# Altium integrated library Silicon Labs Wireless.IntLib: 71 symbols (part 5 of 7)
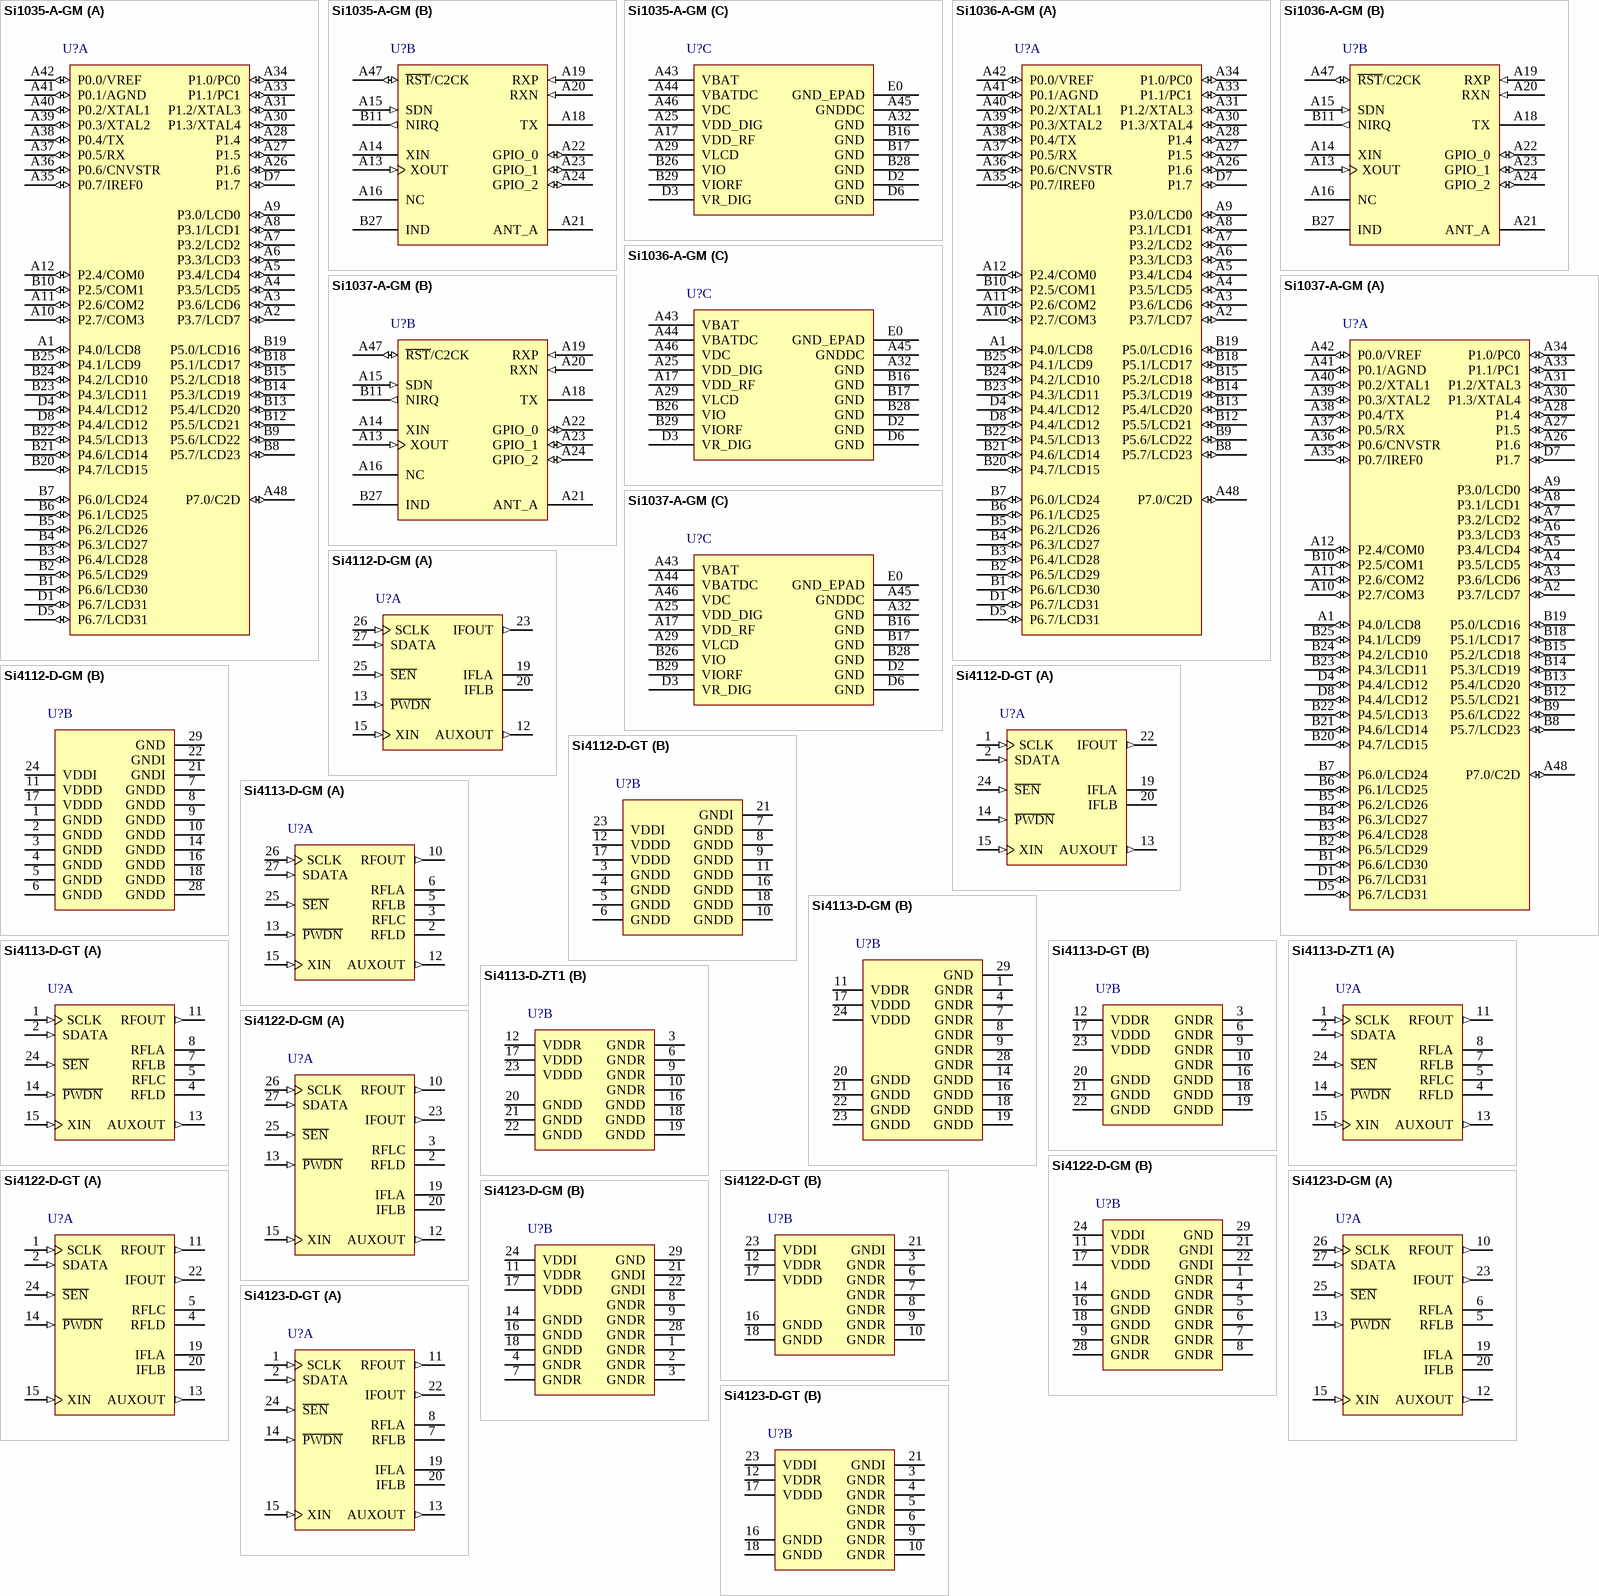
[diagram p10: symbols Si1035-A-GM to Si4123-D-GT]

## Si1037-A-GM
designator U?
Ultra Low Power, LCD MCU Family, 16 kB Flash, 4 Timers (16-Bit), -40 to 85 degC, 85-pin LGA, Tray; Manufacturer: Silicon Labs; PartNumber: Si1037-A-GM; Comparators: 2; Dig I/O Pins: 53; Flash: 16 kB; Frequency Range: 240 to 960 MHz; FSK/GFSK Data Rate: 256 kbps; Internal Osc. Accuracy: +/-2%; OOK Data Rate: 40 kbps; Output Power: -4 to 13 dBm; PCA Channels: 6; RX Current: 18.5 mA; Temp Sensor: TRUE; Timers (16-bit): 4; Sub-Family: Wireless MCUs; DatasheetVersion: Rev. 0.3; PackageReference: LGA-85; PackageDescription: 85-Pin Land Grid Array, Body 6 x 8 mm, Pitch 0.5 mm; Supplier 1: Digi-Key; Supplier Part Number 1: 336-2188-ND; Supplier 2: Mouser; Supplier Part Number 2: 634-SI1037-A-GM; Packing: Tray; Mounting Technology: Surface Mount; Code_IPC: J-STD-020; ComponentLink1Description: Manufacturer URL; ComponentLink1URL: http://www.silabs.com/; ComponentLink2Description: Datasheet; ComponentLink2URL: http://www.silabs.com/Support Documents/TechnicalDocs/Si102x-3x.pdf; ComponentLink3Description: Package Specification; ComponentLink3URL: http://www.silabs.com/Support%20Documents/TechnicalDocs/Si102x-3x.pdf
footprint SLAB-LGA-85_V (LGA, 85-Leads, Body 8x6mm, Thermal Pad 2.4x5.6mm)
part A pins: A1 P4.0/LCD8 (io), A2 P3.7/LCD7 (io), A3 P3.6/LCD6 (io), A4 P3.5/LCD5 (io), A5 P3.4/LCD4 (io), A6 P3.3/LCD3 (io), A7 P3.2/LCD2 (io), A8 P3.1/LCD1 (io), A9 P3.0/LCD0 (io), A10 P2.7/COM3 (io), A11 P2.6/COM2 (io), A12 P2.4/COM0 (io), A26 P1.6 (io) "Port 1.6. See Port I/O Section for a complete description.", A27 P1.5 (io) "Port 1.5. See Port I/O Section for a complete description.", A28 P1.4 (io) "Port 1.4. See Port I/O Section for a complete description.", A30 P1.3/XTAL4 (io), A31 P1.2/XTAL3 (io), A33 P1.1/PC1 (io), A34 P1.0/PC0 (io), A35 P0.7/IREF0 (io), A36 P0.6/CNVSTR (io), A37 P0.5/RX (io), A38 P0.4/TX (io), A39 P0.3/XTAL2 (io), A40 P0.2/XTAL1 (io), A41 P0.1/AGND (io), A42 P0.0/VREF (io), A48 P7.0/C2D (io), B1 P6.6/LCD30 (io), B2 P6.5/LCD29 (io), B3 P6.4/LCD28 (io), B4 P6.3/LCD27 (io), B5 P6.2/LCD26 (io), B6 P6.1/LCD25 (io), B7 P6.0/LCD24 (io), B8 P5.7/LCD23 (io), B9 P5.6/LCD22 (io), B10 P2.5/COM1 (io), B12 P5.5/LCD21 (io), B13 P5.4/LCD20 (io), B14 P5.3/LCD19 (io), B15 P5.2/LCD18 (io), B18 P5.1/LCD17 (io), B19 P5.0/LCD16 (io), B20 P4.7/LCD15 (io), B21 P4.6/LCD14 (io), B22 P4.5/LCD13 (io), B23 P4.3/LCD11 (io), B24 P4.2/LCD10 (io), B25 P4.1/LCD9 (io), D1 P6.7/LCD31 (io), D4 P4.4/LCD12 (io), D5 P6.7/LCD31 (io), D7 P1.7 (io) "Port 1.7. See Port I/O Section for a complete description.", D8 P4.4/LCD12 (io)
part B pins: A13 XOUT (in) "Crystal Oscillator Output/External Reference Input. Connect to an external 30 MHz crystal or to an external source. If using an external source with no crystal, then DC coupling with a nominal 0.8 VDC level is recommended (See Datasheet)", A14 XIN "Crystal Oscillator Input. Connect to an external 30 MHz crystal or leave floating when driving with an external source on XOUT.", A15 SDN (in) "Shutdown input pin. SDN should be low in all modes except Shutdown mode. When SDN is high, the radio will be completely shut down, and the contents of the registers will be lost.", A16 NC "No Connect. Not connected internally to any circuitry.", A18 TX (oc) "Transmit output pin. The PA output is an open-drain connection so the L-C match must supply VDD (+3.3 VDC nominal) to this pin.", A19 RXP (in) "Differential RF input pins of the LNA. See application schematic for example matching network.", A20 RXN (in) "Differential RF input pins of the LNA. See application schematic for example matching network.", A21 ANT_A "Extra antenna or TR switch control to be used if more GPIO are required. Pin is a hardwired version of GPIO setting 11000, Antenna 2 and can be manually controlled by the antdiv[2:0] bits in register 08h. See register (See Datasheet)", A22 GPIO_0 (io) "General Purpose Digital I/O that may be configured through the registers to perform various functions including: Microcontroller Clock Output, FIFO status, POR, Wake-Up timer, Low Battery Detect, T/R switch, AntDiversity (See Datasheet)", A23 GPIO_1 (io) "General Purpose Digital I/O that may be configured through the registers to perform various functions including: Microcontroller Clock Output, FIFO status, POR, Wake-Up timer, Low Battery Detect, T/R switch, AntDiversity (See Datasheet)", A24 GPIO_2 (io) "General Purpose Digital I/O that may be configured through the registers to perform various functions including: Microcontroller Clock Output, FIFO status, POR, Wake-Up timer, Low Battery Detect, T/R switch, AntDiversity (See Datasheet)", A47 ~{RST}/C2CK (io), B11 NIRQ (out) "General Microcontroller Interrupt Status output. When the EZRadioPRO transceiver exhibits anyone of the Interrupt Events, the nIRQ pin will be set low. Please see the Control Logic registers section for more information on (See Datasheet)", B27 IND "DC-DC Inductor Pin. This pin requires a 560 nH inductor to VDC if the DC-DC converter is used."
part C pins: A17 VDD_RF (power) "+1.8 to +3.6 V supply voltage input to all analog +1.7 V regulators. The recommended VDD supply voltage is +3.3 V", A25 VDD_DIG (power) "+1.8 to +3.6 V supply voltage input to the Digital +1.7 V regulator. The recommended VDD supply voltage is +3.3 V.", A29 VLCD (power) "LCD Power Supply. This pin requires a 10 uF capacitor to stabilize the charge pump.", A32 GND (power) "Required Ground.", A43 VBAT (power) "Battery Supply Voltage. Must be 1.8 to 3.8 V.", A44 VBATDC (power) "DC0 Input Voltage. Must be 1.8 to 3.8 V.", A45 GNDDC (power) "DC-DC converter return current path. This pin is typically tied to the ground plane.", A46 VDC (power) "Alternate Power Supply Voltage. Must be 1.8 to 3.6 V. This supply voltage must always be <= VBAT. Software may select this supply voltage to power the digital logic. Positive output of the DC-DC converter. A 1 uF to 10 uF (See Datasheet)", B16 GND (power) "Required Ground.", B17 GND (power) "Required Ground.", B26 VIO (power) "I/O Power Supply for P0.0-P1.4 and P2.4-P7.0 pins. This supply voltage must always be <= VBAT.", B28 GND (power) "Required Ground.", B29 VIORF (power) "I/O Power Supply for P1.5-P2.3 pins. This supply voltage must always be <= VBAT", D2 GND (power) "Required Ground.", D3 VR_DIG (power) "Regulated Output Voltage of the Digital 1.7 V regulator. A 1 uF decoupling capacitor is required.", D6 GND (power) "Required Ground.", E0 GND_EPAD (power)

## Si4112-D-GM
designator U?
Dual-Band RF Synthesizer with Integrated VCOs for Wireless Communications, -40 to 85 degC, 28-pin QFN, Tube; Manufacturer: Silicon Labs; PartNumber: Si4112-D-GM; Sub-Family: RF Synthesizers; DatasheetVersion: Rev. 1.61; PackageReference: QFN-28; PackageDescription: 28-Pin Quad-Flat No-Leads Package, Body 5 x 5 mm, Pitch 0.5 mm; Supplier 1: Digi-Key; Supplier Part Number 1: 336-1170-ND; Supplier 2: Mouser; Supplier Part Number 2: 634-SI4112-D-GM; Packing: Tube; Mounting Technology: Surface Mount; Code_JEDEC: MO-220; Code_IPC: J-STD-020; ComponentLink1Description: Manufacturer URL; ComponentLink1URL: http://www.silabs.com/; ComponentLink2Description: Datasheet; ComponentLink2URL: http://www.silabs.com/Support%20Documents/TechnicalDocs/si4133.pdf; ComponentLink3Description: Package Specification; ComponentLink3URL: http://www.silabs.com/Support%20Documents/TechnicalDocs/si4133.pdf
footprint SLAB-QFN-28-2700x2700TP_N (QFN, 28-Leads, Body 5x5mm, Pitch 0.5mm, Thermal Pad 2.7x2.7mm, IPC Medium Density)
footprint SLAB-QFN-28-2700x2700TP_L (QFN, 28-Leads, Body 5x5mm, Pitch 0.5mm, Thermal Pad 2.7x2.7mm, IPC High Density)
footprint SLAB-QFN-28-2700x2700TP_M (QFN, 28-Leads, Body 5x5mm, Pitch 0.5mm, Thermal Pad 2.7x2.7mm, IPC Low Density)
part A pins: 12 AUXOUT (out) "Auxiliary output", 13 ~{PWDN} (in) "Powerdown input pin", 15 XIN (in) "Reference frequency amplifier input", 19 IFLA "Pins for inductor connection to IF VCO", 20 IFLB "Pins for inductor connection to IF VCO", 23 IFOUT (out) "Intermediate frequency (IF) output of the IF VCO", 25 ~{SEN} (in) "Enable serial port input", 26 SCLK (in) "Serial clock input", 27 SDATA (in) "Serial data input"
part B pins: 1 GNDD (power) "Common ground for digital circuitry", 2 GNDD (power) "Common ground for digital circuitry", 3 GNDD (power) "Common ground for digital circuitry", 4 GNDD (power) "Common ground for digital circuitry", 5 GNDD (power) "Common ground for digital circuitry", 6 GNDD (power) "Common ground for digital circuitry", 7 GNDD (power) "Common ground for digital circuitry", 8 GNDD (power) "Common ground for digital circuitry", 9 GNDD (power) "Common ground for digital circuitry", 10 GNDD (power) "Common ground for digital circuitry", 11 VDDD (power) "Supply voltage for digital circuitry", 14 GNDD (power) "Common ground for digital circuitry", 16 GNDD (power) "Common ground for digital circuitry", 17 VDDD (power) "Supply voltage for digital circuitry", 18 GNDD (power) "Common ground for digital circuitry", 21 GNDI (power) "Common ground for IF analog circuitry", 22 GNDI (power) "Common ground for IF analog circuitry", 24 VDDI (power) "Supply voltage for IF analog circuitry", 28 GNDD (power) "Common ground for digital circuitry", 29 GND (power)

## Si4112-D-GT
designator U?
Dual-Band RF Synthesizer with Integrated VCOs for Wireless Communications, -40 to 85 degC, 24-pin SOP, Tube; Manufacturer: Silicon Labs; PartNumber: Si4112-D-GT; Sub-Family: RF Synthesizers; DatasheetVersion: Rev. 1.61; PackageReference: TSSOP-24; PackageDescription: 24-Pin Thin Shrink Small-Outline Package, Body 7.8 x 4.4 mm, Pitch 0.65 mm; Supplier 1: Digi-Key; Supplier Part Number 1: 336-1171-ND; Supplier 2: Mouser; Supplier Part Number 2: 634-SI4112-D-GT; Packing: Tube; Mounting Technology: Surface Mount; Code_JEDEC: MO-153; Code_IPC: J-STD-020; ComponentLink1Description: Manufacturer URL; ComponentLink1URL: http://www.silabs.com/; ComponentLink2Description: Datasheet; ComponentLink2URL: http://www.silabs.com/Support%20Documents/TechnicalDocs/si4133.pdf; ComponentLink3Description: Package Specification; ComponentLink3URL: http://www.silabs.com/Support%20Documents/TechnicalDocs/Si2457-34-15-04D.pdf
footprint SLAB-TSSOP-24_N (SOP, 24-Leads, Body 7.9x4.5mm, Pitch 0.65mm, IPC Medium Density)
footprint SLAB-TSSOP-24_L (SOP, 24-Leads, Body 7.9x4.5mm, Pitch 0.65mm, IPC High Density)
footprint SLAB-TSSOP-24_M (SOP, 24-Leads, Body 7.9x4.5mm, Pitch 0.65mm, IPC Low Density)
part A pins: 1 SCLK (in) "Serial clock input", 2 SDATA (in) "Serial data input", 13 AUXOUT (out) "Auxiliary output", 14 ~{PWDN} (in) "Powerdown input pin", 15 XIN (in) "Reference frequency amplifier input", 19 IFLA "Pins for inductor connection to IF VCO", 20 IFLB "Pins for inductor connection to IF VCO", 22 IFOUT (out) "Intermediate frequency (IF) output of the IF VCO", 24 ~{SEN} (in) "Enable serial port input"
part B pins: 3 GNDD (power) "Common ground for RF analog circuitry", 4 GNDD (power) "Common ground for RF analog circuitry", 5 GNDD (power) "Common ground for RF analog circuitry", 6 GNDD (power) "Common ground for RF analog circuitry", 7 GNDD (power) "Common ground for RF analog circuitry", 8 GNDD (power) "Common ground for RF analog circuitry", 9 GNDD (power) "Common ground for RF analog circuitry", 10 GNDD (power) "Common ground for RF analog circuitry", 11 GNDD (power) "Common ground for RF analog circuitry", 12 VDDD (power) "Supply voltage for the RF analog circuitry", 16 GNDD (power) "Common ground for digital circuitry", 17 VDDD (power) "Supply voltage for digital circuitry", 18 GNDD (power) "Common ground for digital circuitry", 21 GNDI (power) "Common ground for IF analog circuitry", 23 VDDI (power) "Supply voltage for IF analog circuitry"

## Si4113-D-GM
designator U?
Dual-Band RF Synthesizer with Integrated VCOs for Wireless Communications, -40 to 85 degC, 28-pin QFN, Tray; Manufacturer: Silicon Labs; PartNumber: Si4113-D-GM; Sub-Family: RF Synthesizers; DatasheetVersion: Rev. 1.61; PackageReference: QFN-28; PackageDescription: 28-Pin Quad-Flat No-Leads Package, Body 5 x 5 mm, Pitch 0.5 mm; Supplier 1: Digi-Key; Supplier Part Number 1: 336-1099-ND; Supplier 2: Mouser; Supplier Part Number 2: 634-SI4113-D-GM; Packing: Tray; Mounting Technology: Surface Mount; Code_JEDEC: MO-220; Code_IPC: J-STD-020; ComponentLink1Description: Manufacturer URL; ComponentLink1URL: http://www.silabs.com/; ComponentLink2Description: Datasheet; ComponentLink2URL: http://www.silabs.com/Support%20Documents/TechnicalDocs/si4133.pdf; ComponentLink3Description: Package Specification; ComponentLink3URL: http://www.silabs.com/Support%20Documents/TechnicalDocs/si4133.pdf
footprint SLAB-QFN-28-2700x2700TP_N (QFN, 28-Leads, Body 5x5mm, Pitch 0.5mm, Thermal Pad 2.7x2.7mm, IPC Medium Density)
footprint SLAB-QFN-28-2700x2700TP_L (QFN, 28-Leads, Body 5x5mm, Pitch 0.5mm, Thermal Pad 2.7x2.7mm, IPC High Density)
footprint SLAB-QFN-28-2700x2700TP_M (QFN, 28-Leads, Body 5x5mm, Pitch 0.5mm, Thermal Pad 2.7x2.7mm, IPC Low Density)
part A pins: 2 RFLD "Pins for inductor connection to RF2 VCO", 3 RFLC "Pins for inductor connection to RF2 VCO", 5 RFLB "Pins for inductor connection to RF1 VCO", 6 RFLA "Pins for inductor connection to RF1 VCO", 10 RFOUT (out) "Radio frequency (RF) output of the selected RF VCO", 12 AUXOUT (out) "Auxiliary output", 13 ~{PWDN} (in) "Powerdown input pin", 15 XIN (in) "Reference frequency amplifier input", 25 ~{SEN} (in) "Enable serial port input", 26 SCLK (in) "Serial clock input", 27 SDATA (in) "Serial data input"
part B pins: 1 GNDR (power) "Common ground for RF analog circuitry", 4 GNDR (power) "Common ground for RF analog circuitry", 7 GNDR (power) "Common ground for RF analog circuitry", 8 GNDR (power) "Common ground for RF analog circuitry", 9 GNDR (power) "Common ground for RF analog circuitry", 11 VDDR (power) "Supply voltage for the RF analog circuitry", 14 GNDD (power) "Common ground for digital circuitry", 16 GNDD (power) "Common ground for digital circuitry", 17 VDDD (power) "Supply voltage for digital circuitry", 18 GNDD (power) "Common ground for digital circuitry", 19 GNDD (power) "Common ground for digital circuitry", 20 GNDD (power) "Common ground for digital circuitry", 21 GNDD (power) "Common ground for digital circuitry", 22 GNDD (power) "Common ground for digital circuitry", 23 GNDD (power) "Common ground for digital circuitry", 24 VDDD (power) "Supply voltage for digital circuitry", 28 GNDR (power) "Common ground for RF analog circuitry", 29 GND (power)

## Si4113-D-GT
designator U?
Dual-Band RF Synthesizer with Integrated VCOs for Wireless Communications, -40 to 85 degC, 24-pin SOP, Tube; Manufacturer: Silicon Labs; PartNumber: Si4113-D-GT; Sub-Family: RF Synthesizers; DatasheetVersion: Rev. 1.61; PackageReference: TSSOP-24; PackageDescription: 24-Pin Thin Shrink Small-Outline Package, Body 7.8 x 4.4 mm, Pitch 0.65 mm; Supplier 1: Digi-Key; Supplier Part Number 1: 336-1172-ND; Supplier 2: Mouser; Supplier Part Number 2: 634-SI4113-D-GT; Packing: Tube; Mounting Technology: Surface Mount; Code_JEDEC: MO-153; Code_IPC: J-STD-020; ComponentLink1Description: Manufacturer URL; ComponentLink1URL: http://www.silabs.com/; ComponentLink2Description: Datasheet; ComponentLink2URL: http://www.silabs.com/Support%20Documents/TechnicalDocs/si4133.pdf; ComponentLink3Description: Package Specification; ComponentLink3URL: http://www.silabs.com/Support%20Documents/TechnicalDocs/Si2457-34-15-04D.pdf
footprint SLAB-TSSOP-24_N (SOP, 24-Leads, Body 7.9x4.5mm, Pitch 0.65mm, IPC Medium Density)
footprint SLAB-TSSOP-24_L (SOP, 24-Leads, Body 7.9x4.5mm, Pitch 0.65mm, IPC High Density)
footprint SLAB-TSSOP-24_M (SOP, 24-Leads, Body 7.9x4.5mm, Pitch 0.65mm, IPC Low Density)
part A pins: 1 SCLK (in) "Serial clock input", 2 SDATA (in) "Serial data input", 4 RFLD "Pins for inductor connection to RF2 VCO", 5 RFLC "Pins for inductor connection to RF2 VCO", 7 RFLB "Pins for inductor connection to RF1 VCO", 8 RFLA "Pins for inductor connection to RF1 VCO", 11 RFOUT (out) "Radio frequency (RF) output of the selected RF VCO", 13 AUXOUT (out) "Auxiliary output", 14 ~{PWDN} (in) "Powerdown input pin", 15 XIN (in) "Reference frequency amplifier input", 24 ~{SEN} (in) "Enable serial port input"
part B pins: 3 GNDR (power) "Common ground for RF analog circuitry", 6 GNDR (power) "Common ground for RF analog circuitry", 9 GNDR (power) "Common ground for RF analog circuitry", 10 GNDR (power) "Common ground for RF analog circuitry", 12 VDDR (power) "Supply voltage for the RF analog circuitry", 16 GNDD (power) "Common ground for digital circuitry", 17 VDDD (power) "Supply voltage for digital circuitry", 18 GNDD (power) "Common ground for digital circuitry", 19 GNDD (power) "Common ground for digital circuitry", 20 GNDD (power) "Common ground for digital circuitry", 21 GNDD (power) "Common ground for IF analog circuitry", 22 GNDD (power) "Common ground for digital circuitry", 23 VDDD (power) "Supply voltage for IF analog circuitry"

## Si4113-D-ZT1
designator U?
Dual-Band RF Synthesizer with Integrated VCOs for Wireless Communications, -40 to 85 degC, 24-pin SOP, Tube; Manufacturer: Silicon Labs; PartNumber: Si4113-D-ZT1; Sub-Family: RF Synthesizers; DatasheetVersion: Rev. 1.61; PackageReference: TSSOP-24; PackageDescription: 24-Pin Thin Shrink Small-Outline Package, Body 7.8 x 4.4 mm, Pitch 0.65 mm; Supplier 1: Digi-Key; Supplier Part Number 1: SI4113-D-ZT1-ND; Supplier 2: Mouser; Supplier Part Number 2: 634-SI4113-D-ZT1; Packing: Tube; Mounting Technology: Surface Mount; Code_JEDEC: MO-153; Code_IPC: J-STD-020; ComponentLink1Description: Manufacturer URL; ComponentLink1URL: http://www.silabs.com/; ComponentLink2Description: Datasheet; ComponentLink2URL: http://www.silabs.com/Support%20Documents/TechnicalDocs/si4133.pdf; ComponentLink3Description: Package Specification; ComponentLink3URL: http://www.silabs.com/Support%20Documents/TechnicalDocs/Si2457-34-15-04D.pdf
footprint SLAB-TSSOP-24_N (SOP, 24-Leads, Body 7.9x4.5mm, Pitch 0.65mm, IPC Medium Density)
footprint SLAB-TSSOP-24_L (SOP, 24-Leads, Body 7.9x4.5mm, Pitch 0.65mm, IPC High Density)
footprint SLAB-TSSOP-24_M (SOP, 24-Leads, Body 7.9x4.5mm, Pitch 0.65mm, IPC Low Density)
part A pins: 1 SCLK (in) "Serial clock input", 2 SDATA (in) "Serial data input", 4 RFLD "Pins for inductor connection to RF2 VCO", 5 RFLC "Pins for inductor connection to RF2 VCO", 7 RFLB "Pins for inductor connection to RF1 VCO", 8 RFLA "Pins for inductor connection to RF1 VCO", 11 RFOUT (out) "Radio frequency (RF) output of the selected RF VCO", 13 AUXOUT (out) "Auxiliary output", 14 ~{PWDN} (in) "Powerdown input pin", 15 XIN (in) "Reference frequency amplifier input", 24 ~{SEN} (in) "Enable serial port input"
part B pins: 3 GNDR (power) "Common ground for RF analog circuitry", 6 GNDR (power) "Common ground for RF analog circuitry", 9 GNDR (power) "Common ground for RF analog circuitry", 10 GNDR (power) "Common ground for RF analog circuitry", 12 VDDR (power) "Supply voltage for the RF analog circuitry", 16 GNDD (power) "Common ground for digital circuitry", 17 VDDD (power) "Supply voltage for digital circuitry", 18 GNDD (power) "Common ground for digital circuitry", 19 GNDD (power) "Common ground for digital circuitry", 20 GNDD (power) "Common ground for digital circuitry", 21 GNDD (power) "Common ground for IF analog circuitry", 22 GNDD (power) "Common ground for digital circuitry", 23 VDDD (power) "Supply voltage for IF analog circuitry"

## Si4122-D-GM
designator U?
Dual-Band RF Synthesizer with Integrated VCOs for Wireless Communications, -40 to 85 degC, 28-pin QFN, Tray; Manufacturer: Silicon Labs; PartNumber: Si4122-D-GM; Sub-Family: RF Synthesizers; DatasheetVersion: Rev. 1.61; PackageReference: QFN-28; PackageDescription: 28-Pin Quad-Flat No-Leads Package, Body 5 x 5 mm, Pitch 0.5 mm; Supplier 1: Digi-Key; Supplier Part Number 1: 336-1103-ND; Supplier 2: Mouser; Supplier Part Number 2: 634-SI4122-D-GM; Packing: Tray; Mounting Technology: Surface Mount; Code_JEDEC: MO-220; Code_IPC: J-STD-020; ComponentLink1Description: Manufacturer URL; ComponentLink1URL: http://www.silabs.com/; ComponentLink2Description: Datasheet; ComponentLink2URL: http://www.silabs.com/Support%20Documents/TechnicalDocs/si4133.pdf; ComponentLink3Description: Package Specification; ComponentLink3URL: http://www.silabs.com/Support%20Documents/TechnicalDocs/si4133.pdf
footprint SLAB-QFN-28-2700x2700TP_N (QFN, 28-Leads, Body 5x5mm, Pitch 0.5mm, Thermal Pad 2.7x2.7mm, IPC Medium Density)
footprint SLAB-QFN-28-2700x2700TP_L (QFN, 28-Leads, Body 5x5mm, Pitch 0.5mm, Thermal Pad 2.7x2.7mm, IPC High Density)
footprint SLAB-QFN-28-2700x2700TP_M (QFN, 28-Leads, Body 5x5mm, Pitch 0.5mm, Thermal Pad 2.7x2.7mm, IPC Low Density)
part A pins: 2 RFLD "Pins for inductor connection to RF2 VCO", 3 RFLC "Pins for inductor connection to RF2 VCO", 10 RFOUT (out) "Radio frequency (RF) output of the selected RF VCO", 12 AUXOUT (out) "Auxiliary output", 13 ~{PWDN} (in) "Powerdown input pin", 15 XIN (in) "Reference frequency amplifier input", 19 IFLA "Pins for inductor connection to IF VCO", 20 IFLB "Pins for inductor connection to IF VCO", 23 IFOUT (out) "Intermediate frequency (IF) output of the IF VCO", 25 ~{SEN} (in) "Enable serial port input", 26 SCLK (in) "Serial clock input", 27 SDATA (in) "Serial data input"
part B pins: 1 GNDR (power) "Common ground for RF analog circuitry", 4 GNDR (power) "Common ground for RF analog circuitry", 5 GNDR (power) "Common ground for RF analog circuitry", 6 GNDR (power) "Common ground for RF analog circuitry", 7 GNDR (power) "Common ground for RF analog circuitry", 8 GNDR (power) "Common ground for RF analog circuitry", 9 GNDR (power) "Common ground for RF analog circuitry", 11 VDDR (power) "Supply voltage for the RF analog circuitry", 14 GNDD (power) "Common ground for digital circuitry", 16 GNDD (power) "Common ground for digital circuitry", 17 VDDD (power) "Supply voltage for digital circuitry", 18 GNDD (power) "Common ground for digital circuitry", 21 GNDI (power) "Common ground for IF analog circuitry", 22 GNDI (power) "Common ground for IF analog circuitry", 24 VDDI (power) "Supply voltage for IF analog circuitry", 28 GNDR (power) "Common ground for RF analog circuitry", 29 GND (power)

## Si4122-D-GT
designator U?
Dual-Band RF Synthesizer with Integrated VCOs for Wireless Communications, -40 to 85 degC, 24-pin SOP, Tube; Manufacturer: Silicon Labs; PartNumber: Si4122-D-GT; Sub-Family: RF Synthesizers; DatasheetVersion: Rev. 1.61; PackageReference: TSSOP-24; PackageDescription: 24-Pin Thin Shrink Small-Outline Package, Body 7.8 x 4.4 mm, Pitch 0.65 mm; Supplier 1: Digi-Key; Supplier Part Number 1: 336-1173-ND; Supplier 2: Mouser; Supplier Part Number 2: 634-SI4122-D-GT; Packing: Tube; Mounting Technology: Surface Mount; Code_JEDEC: MO-153; Code_IPC: J-STD-020; ComponentLink1Description: Manufacturer URL; ComponentLink1URL: http://www.silabs.com/; ComponentLink2Description: Datasheet; ComponentLink2URL: http://www.silabs.com/Support%20Documents/TechnicalDocs/si4133.pdf; ComponentLink3Description: Package Specification; ComponentLink3URL: http://www.silabs.com/Support%20Documents/TechnicalDocs/Si2457-34-15-04D.pdf
footprint SLAB-TSSOP-24_N (SOP, 24-Leads, Body 7.9x4.5mm, Pitch 0.65mm, IPC Medium Density)
footprint SLAB-TSSOP-24_L (SOP, 24-Leads, Body 7.9x4.5mm, Pitch 0.65mm, IPC High Density)
footprint SLAB-TSSOP-24_M (SOP, 24-Leads, Body 7.9x4.5mm, Pitch 0.65mm, IPC Low Density)
part A pins: 1 SCLK (in) "Serial clock input", 2 SDATA (in) "Serial data input", 4 RFLD "Pins for inductor connection to RF2 VCO", 5 RFLC "Pins for inductor connection to RF2 VCO", 11 RFOUT (out) "Radio frequency (RF) output of the selected RF VCO", 13 AUXOUT (out) "Auxiliary output", 14 ~{PWDN} (in) "Powerdown input pin", 15 XIN (in) "Reference frequency amplifier input", 19 IFLA "Pins for inductor connection to IF VCO", 20 IFLB "Pins for inductor connection to IF VCO", 22 IFOUT (out) "Intermediate frequency (IF) output of the IF VCO", 24 ~{SEN} (in) "Enable serial port input"
part B pins: 3 GNDR (power) "Common ground for RF analog circuitry", 6 GNDR (power) "Common ground for RF analog circuitry", 7 GNDR (power) "Common ground for RF analog circuitry", 8 GNDR (power) "Common ground for RF analog circuitry", 9 GNDR (power) "Common ground for RF analog circuitry", 10 GNDR (power) "Common ground for RF analog circuitry", 12 VDDR (power) "Supply voltage for the RF analog circuitry", 16 GNDD (power) "Common ground for digital circuitry", 17 VDDD (power) "Supply voltage for digital circuitry", 18 GNDD (power) "Common ground for digital circuitry", 21 GNDI (power) "Common ground for IF analog circuitry", 23 VDDI (power) "Supply voltage for IF analog circuitry"

## Si4123-D-GM
designator U?
Dual-Band RF Synthesizer with Integrated VCOs for Wireless Communications, -40 to 85 degC, 28-pin QFN, Tube; Manufacturer: Silicon Labs; PartNumber: Si4123-D-GM; Sub-Family: RF Synthesizers; DatasheetVersion: Rev. 1.61; PackageReference: QFN-28; PackageDescription: 28-Pin Quad-Flat No-Leads Package, Body 5 x 5 mm, Pitch 0.5 mm; Supplier 1: Digi-Key; Supplier Part Number 1: 336-1174-ND; Supplier 2: Mouser; Supplier Part Number 2: 634-SI4123-D-GM; Packing: Tube; Mounting Technology: Surface Mount; Code_JEDEC: MO-220; Code_IPC: J-STD-020; ComponentLink1Description: Manufacturer URL; ComponentLink1URL: http://www.silabs.com/; ComponentLink2Description: Datasheet; ComponentLink2URL: http://www.silabs.com/Support%20Documents/TechnicalDocs/si4133.pdf; ComponentLink3Description: Package Specification; ComponentLink3URL: http://www.silabs.com/Support%20Documents/TechnicalDocs/si4133.pdf
footprint SLAB-QFN-28-2700x2700TP_N (QFN, 28-Leads, Body 5x5mm, Pitch 0.5mm, Thermal Pad 2.7x2.7mm, IPC Medium Density)
footprint SLAB-QFN-28-2700x2700TP_L (QFN, 28-Leads, Body 5x5mm, Pitch 0.5mm, Thermal Pad 2.7x2.7mm, IPC High Density)
footprint SLAB-QFN-28-2700x2700TP_M (QFN, 28-Leads, Body 5x5mm, Pitch 0.5mm, Thermal Pad 2.7x2.7mm, IPC Low Density)
part A pins: 5 RFLB "Pins for inductor connection to RF1 VCO", 6 RFLA "Pins for inductor connection to RF1 VCO", 10 RFOUT (out) "Radio frequency (RF) output of the selected RF VCO", 12 AUXOUT (out) "Auxiliary output", 13 ~{PWDN} (in) "Powerdown input pin", 15 XIN (in) "Reference frequency amplifier input", 19 IFLA "Pins for inductor connection to IF VCO", 20 IFLB "Pins for inductor connection to IF VCO", 23 IFOUT (out) "Intermediate frequency (IF) output of the IF VCO", 25 ~{SEN} (in) "Enable serial port input", 26 SCLK (in) "Serial clock input", 27 SDATA (in) "Serial data input"
part B pins: 1 GNDR (power) "Common ground for RF analog circuitry", 2 GNDR (power) "Common ground for RF analog circuitry", 3 GNDR (power) "Common ground for RF analog circuitry", 4 GNDR (power) "Common ground for RF analog circuitry", 7 GNDR (power) "Common ground for RF analog circuitry", 8 GNDR (power) "Common ground for RF analog circuitry", 9 GNDR (power) "Common ground for RF analog circuitry", 11 VDDR (power) "Supply voltage for the RF analog circuitry", 14 GNDD (power) "Common ground for digital circuitry", 16 GNDD (power) "Common ground for digital circuitry", 17 VDDD (power) "Supply voltage for digital circuitry", 18 GNDD (power) "Common ground for digital circuitry", 21 GNDI (power) "Common ground for IF analog circuitry", 22 GNDI (power) "Common ground for IF analog circuitry", 24 VDDI (power) "Supply voltage for IF analog circuitry", 28 GNDR (power) "Common ground for RF analog circuitry", 29 GND (power)

## Si4123-D-GT
designator U?
Dual-Band RF Synthesizer with Integrated VCOs for Wireless Communications, -40 to 85 degC, 24-pin SOP, Tube; Manufacturer: Silicon Labs; PartNumber: Si4123-D-GT; Sub-Family: RF Synthesizers; DatasheetVersion: Rev. 1.61; PackageReference: TSSOP-24; PackageDescription: 24-Pin Thin Shrink Small-Outline Package, Body 7.8 x 4.4 mm, Pitch 0.65 mm; Supplier 1: Digi-Key; Supplier Part Number 1: 336-1175-ND; Supplier 2: Mouser; Supplier Part Number 2: 634-SI4123-D-GT; Packing: Tube; Mounting Technology: Surface Mount; Code_JEDEC: MO-153; Code_IPC: J-STD-020; ComponentLink1Description: Manufacturer URL; ComponentLink1URL: http://www.silabs.com/; ComponentLink2Description: Datasheet; ComponentLink2URL: http://www.silabs.com/Support%20Documents/TechnicalDocs/si4133.pdf; ComponentLink3Description: Package Specification; ComponentLink3URL: http://www.silabs.com/Support%20Documents/TechnicalDocs/Si2457-34-15-04D.pdf
footprint SLAB-TSSOP-24_N (SOP, 24-Leads, Body 7.9x4.5mm, Pitch 0.65mm, IPC Medium Density)
footprint SLAB-TSSOP-24_L (SOP, 24-Leads, Body 7.9x4.5mm, Pitch 0.65mm, IPC High Density)
footprint SLAB-TSSOP-24_M (SOP, 24-Leads, Body 7.9x4.5mm, Pitch 0.65mm, IPC Low Density)
part A pins: 1 SCLK (in) "Serial clock input", 2 SDATA (in) "Serial data input", 7 RFLB "Pins for inductor connection to RF1 VCO", 8 RFLA "Pins for inductor connection to RF1 VCO", 11 RFOUT (out) "Radio frequency (RF) output of the selected RF VCO", 13 AUXOUT (out) "Auxiliary output", 14 ~{PWDN} (in) "Powerdown input pin", 15 XIN (in) "Reference frequency amplifier input", 19 IFLA "Pins for inductor connection to IF VCO", 20 IFLB "Pins for inductor connection to IF VCO", 22 IFOUT (out) "Intermediate frequency (IF) output of the IF VCO", 24 ~{SEN} (in) "Enable serial port input"
part B pins: 3 GNDR (power) "Common ground for RF analog circuitry", 4 GNDR (power) "Common ground for RF analog circuitry", 5 GNDR (power) "Common ground for RF analog circuitry", 6 GNDR (power) "Common ground for RF analog circuitry", 9 GNDR (power) "Common ground for RF analog circuitry", 10 GNDR (power) "Common ground for RF analog circuitry", 12 VDDR (power) "Supply voltage for the RF analog circuitry", 16 GNDD (power) "Common ground for digital circuitry", 17 VDDD (power) "Supply voltage for digital circuitry", 18 GNDD (power) "Common ground for digital circuitry", 21 GNDI (power) "Common ground for IF analog circuitry", 23 VDDI (power) "Supply voltage for IF analog circuitry"

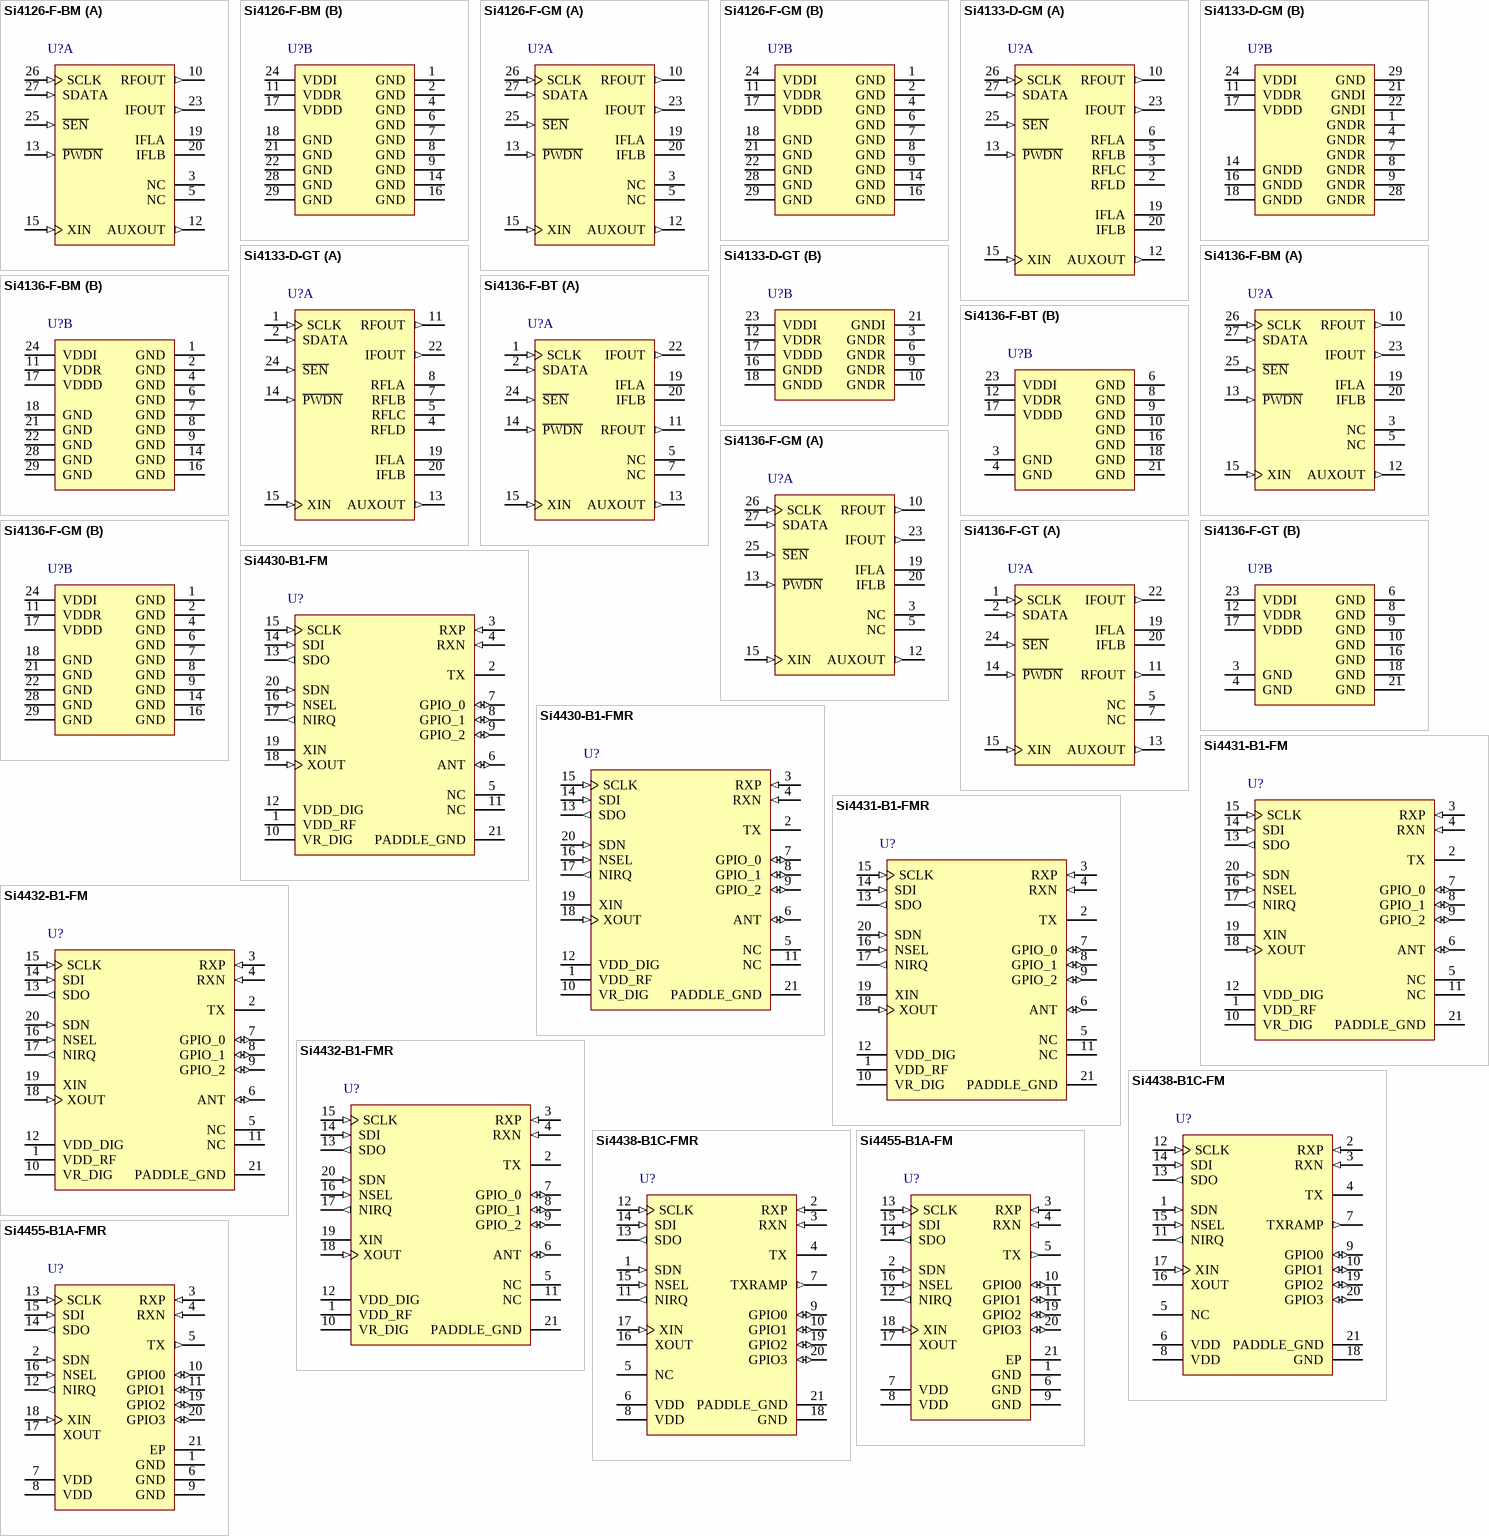
[diagram p5: symbols Si4126-F-BM to Si4455-B1A-FMR]

## Si4126-F-BM
designator U?
ISM RF Synthesizer with Integrated VCOs for Wireless Communications, -40 to 85 degC, 28-pin QFN, Tube; Manufacturer: Silicon Labs; PartNumber: Si4126-F-BM; Sub-Family: RF Synthesizers; DatasheetVersion: Rev. 1.41; PackageReference: QFN-28; PackageDescription: 28-Pin Quad-Flat No-Leads Package, Body 5 x 5 mm, Pitch 0.5 mm; Supplier 1: Digi-Key; Supplier Part Number 1: 336-1176-ND; Supplier 2: Mouser; Supplier Part Number 2: 634-SI4126-F-BM; Packing: Tube; Mounting Technology: Surface Mount; Code_JEDEC: MO-220; Code_IPC: J-STD-020; ComponentLink1Description: Manufacturer URL; ComponentLink1URL: http://www.silabs.com/; ComponentLink2Description: Datasheet; ComponentLink2URL: http://www.silabs.com/Support%20Documents/TechnicalDocs/si4136.pdf; ComponentLink3Description: Package Specification; ComponentLink3URL: http://www.silabs.com/Support%20Documents/TechnicalDocs/si4133.pdf
footprint SLAB-QFN-28-2700x2700TP_N (QFN, 28-Leads, Body 5x5mm, Pitch 0.5mm, Thermal Pad 2.7x2.7mm, IPC Medium Density)
footprint SLAB-QFN-28-2700x2700TP_L (QFN, 28-Leads, Body 5x5mm, Pitch 0.5mm, Thermal Pad 2.7x2.7mm, IPC High Density)
footprint SLAB-QFN-28-2700x2700TP_M (QFN, 28-Leads, Body 5x5mm, Pitch 0.5mm, Thermal Pad 2.7x2.7mm, IPC Low Density)
part A pins: 3 NC "No connect", 5 NC "No connect", 10 RFOUT (out) "Radio frequency (RF) output of the selected RF VCO", 12 AUXOUT (out) "Auxiliary output", 13 ~{PWDN} (in) "Powerdown input pin", 15 XIN (in) "Reference frequency amplifier input", 19 IFLA "Pins for inductor connection to IF VCO", 20 IFLB "Pins for inductor connection to IF VCO", 23 IFOUT (out) "Intermediate frequency (IF) output of the IF VCO", 25 ~{SEN} (in) "Enable serial port input", 26 SCLK (in) "Serial clock input", 27 SDATA (in) "Serial data input"
part B pins: 1 GND (power) "Common ground", 2 GND (power) "Common ground", 4 GND (power) "Common ground", 6 GND (power) "Common ground", 7 GND (power) "Common ground", 8 GND (power) "Common ground", 9 GND (power) "Common ground", 11 VDDR (power) "Supply voltage for the RF analog circuitry", 14 GND (power) "Common ground", 16 GND (power) "Common ground", 17 VDDD (power) "Supply voltage for digital circuitry", 18 GND (power) "Common ground", 21 GND (power) "Common ground", 22 GND (power) "Common ground", 24 VDDI (power) "Supply voltage for IF analog circuitry", 28 GND (power) "Common ground", 29 GND (power) "Common ground"

## Si4126-F-GM
designator U?
ISM RF Synthesizer with Integrated VCOs for Wireless Communications, -40 to 85 degC, 28-pin QFN, Tube; Manufacturer: Silicon Labs; PartNumber: Si4126-F-GM; Sub-Family: RF Synthesizers; DatasheetVersion: Rev. 1.41; PackageReference: QFN-28; PackageDescription: 28-Pin Quad-Flat No-Leads Package, Body 5 x 5 mm, Pitch 0.5 mm; Supplier 1: Digi-Key; Supplier Part Number 1: 336-1289-5-ND; Supplier 2: Mouser; Supplier Part Number 2: 634-SI4126-F-GM; Packing: Tube; Mounting Technology: Surface Mount; Code_JEDEC: MO-220; Code_IPC: J-STD-020; ComponentLink1Description: Manufacturer URL; ComponentLink1URL: http://www.silabs.com/; ComponentLink2Description: Datasheet; ComponentLink2URL: http://www.silabs.com/Support%20Documents/TechnicalDocs/si4136.pdf; ComponentLink3Description: Package Specification; ComponentLink3URL: http://www.silabs.com/Support%20Documents/TechnicalDocs/si4133.pdf
footprint SLAB-QFN-28-2700x2700TP_N (QFN, 28-Leads, Body 5x5mm, Pitch 0.5mm, Thermal Pad 2.7x2.7mm, IPC Medium Density)
footprint SLAB-QFN-28-2700x2700TP_L (QFN, 28-Leads, Body 5x5mm, Pitch 0.5mm, Thermal Pad 2.7x2.7mm, IPC High Density)
footprint SLAB-QFN-28-2700x2700TP_M (QFN, 28-Leads, Body 5x5mm, Pitch 0.5mm, Thermal Pad 2.7x2.7mm, IPC Low Density)
part A pins: 3 NC "No connect", 5 NC "No connect", 10 RFOUT (out) "Radio frequency (RF) output of the selected RF VCO", 12 AUXOUT (out) "Auxiliary output", 13 ~{PWDN} (in) "Powerdown input pin", 15 XIN (in) "Reference frequency amplifier input", 19 IFLA "Pins for inductor connection to IF VCO", 20 IFLB "Pins for inductor connection to IF VCO", 23 IFOUT (out) "Intermediate frequency (IF) output of the IF VCO", 25 ~{SEN} (in) "Enable serial port input", 26 SCLK (in) "Serial clock input", 27 SDATA (in) "Serial data input"
part B pins: 1 GND (power) "Common ground", 2 GND (power) "Common ground", 4 GND (power) "Common ground", 6 GND (power) "Common ground", 7 GND (power) "Common ground", 8 GND (power) "Common ground", 9 GND (power) "Common ground", 11 VDDR (power) "Supply voltage for the RF analog circuitry", 14 GND (power) "Common ground", 16 GND (power) "Common ground", 17 VDDD (power) "Supply voltage for digital circuitry", 18 GND (power) "Common ground", 21 GND (power) "Common ground", 22 GND (power) "Common ground", 24 VDDI (power) "Supply voltage for IF analog circuitry", 28 GND (power) "Common ground", 29 GND (power) "Common ground"

## Si4133-D-GM
designator U?
Dual-Band RF Synthesizer with Integrated VCOs for Wireless Communications, -40 to 85 degC, 28-pin QFN, Tray; Manufacturer: Silicon Labs; PartNumber: Si4133-D-GM; Sub-Family: RF Synthesizers; DatasheetVersion: Rev. 1.61; PackageReference: QFN-28; PackageDescription: 28-Pin Quad-Flat No-Leads Package, Body 5 x 5 mm, Pitch 0.5 mm; Supplier 1: Digi-Key; Supplier Part Number 1: 336-1113-ND; Supplier 2: Mouser; Supplier Part Number 2: 634-SI4133-D-GM; Packing: Tray; Mounting Technology: Surface Mount; Code_JEDEC: MO-220; Code_IPC: J-STD-020; ComponentLink1Description: Manufacturer URL; ComponentLink1URL: http://www.silabs.com/; ComponentLink2Description: Datasheet; ComponentLink2URL: http://www.silabs.com/Support%20Documents/TechnicalDocs/si4133.pdf; ComponentLink3Description: Package Specification; ComponentLink3URL: http://www.silabs.com/Support%20Documents/TechnicalDocs/si4133.pdf
footprint SLAB-QFN-28-2700x2700TP_N (QFN, 28-Leads, Body 5x5mm, Pitch 0.5mm, Thermal Pad 2.7x2.7mm, IPC Medium Density)
footprint SLAB-QFN-28-2700x2700TP_L (QFN, 28-Leads, Body 5x5mm, Pitch 0.5mm, Thermal Pad 2.7x2.7mm, IPC High Density)
footprint SLAB-QFN-28-2700x2700TP_M (QFN, 28-Leads, Body 5x5mm, Pitch 0.5mm, Thermal Pad 2.7x2.7mm, IPC Low Density)
part A pins: 2 RFLD "Pins for inductor connection to RF2 VCO", 3 RFLC "Pins for inductor connection to RF2 VCO", 5 RFLB "Pins for inductor connection to RF1 VCO", 6 RFLA "Pins for inductor connection to RF1 VCO", 10 RFOUT (out) "Radio frequency (RF) output of the selected RF VCO", 12 AUXOUT (out) "Auxiliary output", 13 ~{PWDN} (in) "Powerdown input pin", 15 XIN (in) "Reference frequency amplifier input", 19 IFLA "Pins for inductor connection to IF VCO", 20 IFLB "Pins for inductor connection to IF VCO", 23 IFOUT (out) "Intermediate frequency (IF) output of the IF VCO", 25 ~{SEN} (in) "Enable serial port input", 26 SCLK (in) "Serial clock input", 27 SDATA (in) "Serial data input"
part B pins: 1 GNDR (power) "Common ground for RF analog circuitry", 4 GNDR (power) "Common ground for RF analog circuitry", 7 GNDR (power) "Common ground for RF analog circuitry", 8 GNDR (power) "Common ground for RF analog circuitry", 9 GNDR (power) "Common ground for RF analog circuitry", 11 VDDR (power) "Supply voltage for the RF analog circuitry", 14 GNDD (power) "Common ground for digital circuitry", 16 GNDD (power) "Common ground for digital circuitry", 17 VDDD (power) "Supply voltage for digital circuitry", 18 GNDD (power) "Common ground for digital circuitry", 21 GNDI (power) "Common ground for IF analog circuitry", 22 GNDI (power) "Common ground for IF analog circuitry", 24 VDDI (power) "Supply voltage for IF analog circuitry", 28 GNDR (power) "Common ground for RF analog circuitry", 29 GND (power)

## Si4133-D-GT
designator U?
Dual-Band RF Synthesizer with Integrated VCOs for Wireless Communications, -40 to 85 degC, 24-pin SOP, Tube; Manufacturer: Silicon Labs; PartNumber: Si4133-D-GT; Sub-Family: RF Synthesizers; DatasheetVersion: Rev. 1.61; PackageReference: TSSOP-24; PackageDescription: 24-Pin Thin Shrink Small-Outline Package, Body 7.8 x 4.4 mm, Pitch 0.65 mm; Supplier 1: Digi-Key; Supplier Part Number 1: 336-1177-ND; Supplier 2: Mouser; Supplier Part Number 2: 634-SI4133-D-GT; Packing: Tube; Mounting Technology: Surface Mount; Code_JEDEC: MO-153; Code_IPC: J-STD-020; ComponentLink1Description: Manufacturer URL; ComponentLink1URL: http://www.silabs.com/; ComponentLink2Description: Datasheet; ComponentLink2URL: http://www.silabs.com/Support%20Documents/TechnicalDocs/si4133.pdf; ComponentLink3Description: Package Specification; ComponentLink3URL: http://www.silabs.com/Support%20Documents/TechnicalDocs/Si2457-34-15-04D.pdf
footprint SLAB-TSSOP-24_N (SOP, 24-Leads, Body 7.9x4.5mm, Pitch 0.65mm, IPC Medium Density)
footprint SLAB-TSSOP-24_L (SOP, 24-Leads, Body 7.9x4.5mm, Pitch 0.65mm, IPC High Density)
footprint SLAB-TSSOP-24_M (SOP, 24-Leads, Body 7.9x4.5mm, Pitch 0.65mm, IPC Low Density)
part A pins: 1 SCLK (in) "Serial clock input", 2 SDATA (in) "Serial data input", 4 RFLD "Pins for inductor connection to RF2 VCO", 5 RFLC "Pins for inductor connection to RF2 VCO", 7 RFLB "Pins for inductor connection to RF1 VCO", 8 RFLA "Pins for inductor connection to RF1 VCO", 11 RFOUT (out) "Radio frequency (RF) output of the selected RF VCO", 13 AUXOUT (out) "Auxiliary output", 14 ~{PWDN} (in) "Powerdown input pin", 15 XIN (in) "Reference frequency amplifier input", 19 IFLA "Pins for inductor connection to IF VCO", 20 IFLB "Pins for inductor connection to IF VCO", 22 IFOUT (out) "Intermediate frequency (IF) output of the IF VCO", 24 ~{SEN} (in) "Enable serial port input"
part B pins: 3 GNDR (power) "Common ground for RF analog circuitry", 6 GNDR (power) "Common ground for RF analog circuitry", 9 GNDR (power) "Common ground for RF analog circuitry", 10 GNDR (power) "Common ground for RF analog circuitry", 12 VDDR (power) "Supply voltage for the RF analog circuitry", 16 GNDD (power) "Common ground for digital circuitry", 17 VDDD (power) "Supply voltage for digital circuitry", 18 GNDD (power) "Common ground for digital circuitry", 21 GNDI (power) "Common ground for IF analog circuitry", 23 VDDI (power) "Supply voltage for IF analog circuitry"

## Si4136-F-BM
designator U?
ISM RF Synthesizer with Integrated VCOs for Wireless Communications, -40 to 85 degC, 28-pin QFN, Tube; Manufacturer: Silicon Labs; PartNumber: Si4136-F-BM; Sub-Family: RF Synthesizers; DatasheetVersion: Rev. 1.41; PackageReference: QFN-28; PackageDescription: 28-Pin Quad-Flat No-Leads Package, Body 5 x 5 mm, Pitch 0.5 mm; Supplier 1: Digi-Key; Supplier Part Number 1: SI4136-F-BM-ND; Supplier 2: Mouser; Supplier Part Number 2: 634-SI4136-F-BM; Packing: Tube; Mounting Technology: Surface Mount; Code_JEDEC: MO-220; Code_IPC: J-STD-020; ComponentLink1Description: Manufacturer URL; ComponentLink1URL: http://www.silabs.com/; ComponentLink2Description: Datasheet; ComponentLink2URL: http://www.silabs.com/Support%20Documents/TechnicalDocs/si4136.pdf; ComponentLink3Description: Package Specification; ComponentLink3URL: http://www.silabs.com/Support%20Documents/TechnicalDocs/si4133.pdf
footprint SLAB-QFN-28-2700x2700TP_N (QFN, 28-Leads, Body 5x5mm, Pitch 0.5mm, Thermal Pad 2.7x2.7mm, IPC Medium Density)
footprint SLAB-QFN-28-2700x2700TP_L (QFN, 28-Leads, Body 5x5mm, Pitch 0.5mm, Thermal Pad 2.7x2.7mm, IPC High Density)
footprint SLAB-QFN-28-2700x2700TP_M (QFN, 28-Leads, Body 5x5mm, Pitch 0.5mm, Thermal Pad 2.7x2.7mm, IPC Low Density)
part A pins: 3 NC "No connect", 5 NC "No connect", 10 RFOUT (out) "Radio frequency (RF) output of the selected RF VCO", 12 AUXOUT (out) "Auxiliary output", 13 ~{PWDN} (in) "Powerdown input pin", 15 XIN (in) "Reference frequency amplifier input", 19 IFLA "Pins for inductor connection to IF VCO", 20 IFLB "Pins for inductor connection to IF VCO", 23 IFOUT (out) "Intermediate frequency (IF) output of the IF VCO", 25 ~{SEN} (in) "Enable serial port input", 26 SCLK (in) "Serial clock input", 27 SDATA (in) "Serial data input"
part B pins: 1 GND (power) "Common ground", 2 GND (power) "Common ground", 4 GND (power) "Common ground", 6 GND (power) "Common ground", 7 GND (power) "Common ground", 8 GND (power) "Common ground", 9 GND (power) "Common ground", 11 VDDR (power) "Supply voltage for the RF analog circuitry", 14 GND (power) "Common ground", 16 GND (power) "Common ground", 17 VDDD (power) "Supply voltage for digital circuitry", 18 GND (power) "Common ground", 21 GND (power) "Common ground", 22 GND (power) "Common ground", 24 VDDI (power) "Supply voltage for IF analog circuitry", 28 GND (power) "Common ground", 29 GND (power) "Common ground"

## Si4136-F-BT
designator U?
ISM RF Synthesizer with Integrated VCOs for Wireless Communications, -40 to 85 degC, 24-pin SOP, Tube; Manufacturer: Silicon Labs; PartNumber: Si4136-F-BT; Sub-Family: RF Synthesizers; DatasheetVersion: Rev. 1.41; PackageReference: TSSOP-24; PackageDescription: 24-Pin Thin Shrink Small-Outline Package, Body 7.8 x 4.4 mm, Pitch 0.65 mm; Supplier 1: Digi-Key; Supplier Part Number 1: SI4136-F-BT-ND; Supplier 2: Mouser; Supplier Part Number 2: 634-SI4136-F-BT; Packing: Tube; Mounting Technology: Surface Mount; Code_JEDEC: MO-153; Code_IPC: J-STD-020; ComponentLink1Description: Manufacturer URL; ComponentLink1URL: http://www.silabs.com/; ComponentLink2Description: Datasheet; ComponentLink2URL: http://www.silabs.com/Support%20Documents/TechnicalDocs/si4136.pdf; ComponentLink3Description: Package Specification; ComponentLink3URL: http://www.silabs.com/Support%20Documents/TechnicalDocs/Si2457-34-15-04D.pdf
footprint SLAB-TSSOP-24_N (SOP, 24-Leads, Body 7.9x4.5mm, Pitch 0.65mm, IPC Medium Density)
footprint SLAB-TSSOP-24_L (SOP, 24-Leads, Body 7.9x4.5mm, Pitch 0.65mm, IPC High Density)
footprint SLAB-TSSOP-24_M (SOP, 24-Leads, Body 7.9x4.5mm, Pitch 0.65mm, IPC Low Density)
part A pins: 1 SCLK (in) "Serial clock input", 2 SDATA (in) "Serial data input", 5 NC "No connect", 7 NC "No connect", 11 RFOUT (out) "Radio frequency (RF) output of the selected RF VCO", 13 AUXOUT (out) "Auxiliary output", 14 ~{PWDN} (in) "Powerdown input pin", 15 XIN (in) "Reference frequency amplifier input", 19 IFLA "Pins for inductor connection to IF VCO", 20 IFLB "Pins for inductor connection to IF VCO", 22 IFOUT (out) "Intermediate frequency (IF) output of the IF VCO", 24 ~{SEN} (in) "Enable serial port input"
part B pins: 3 GND (power) "Common ground", 4 GND (power) "Common ground", 6 GND (power) "Common ground", 8 GND (power) "Common ground", 9 GND (power) "Common ground", 10 GND (power) "Common ground", 12 VDDR (power) "Supply voltage for the RF analog circuitry", 16 GND (power) "Common ground", 17 VDDD (power) "Supply voltage for digital circuitry", 18 GND (power) "Common ground", 21 GND (power) "Common ground", 23 VDDI (power) "Supply voltage for IF analog circuitry"

## Si4136-F-GM
designator U?
ISM RF Synthesizer with Integrated VCOs for Wireless Communications, -40 to 85 degC, 28-pin QFN, Tube; Manufacturer: Silicon Labs; PartNumber: Si4136-F-GM; Sub-Family: RF Synthesizers; DatasheetVersion: Rev. 1.41; PackageReference: QFN-28; PackageDescription: 28-Pin Quad-Flat No-Leads Package, Body 5 x 5 mm, Pitch 0.5 mm; Supplier 1: Digi-Key; Supplier Part Number 1: 336-1178-ND; Supplier 2: Mouser; Supplier Part Number 2: 634-SI4136-F-GM; Packing: Tube; Mounting Technology: Surface Mount; Code_JEDEC: MO-220; Code_IPC: J-STD-020; ComponentLink1Description: Manufacturer URL; ComponentLink1URL: http://www.silabs.com/; ComponentLink2Description: Datasheet; ComponentLink2URL: http://www.silabs.com/Support%20Documents/TechnicalDocs/si4136.pdf; ComponentLink3Description: Package Specification; ComponentLink3URL: http://www.silabs.com/Support%20Documents/TechnicalDocs/si4133.pdf
footprint SLAB-QFN-28-2700x2700TP_N (QFN, 28-Leads, Body 5x5mm, Pitch 0.5mm, Thermal Pad 2.7x2.7mm, IPC Medium Density)
footprint SLAB-QFN-28-2700x2700TP_L (QFN, 28-Leads, Body 5x5mm, Pitch 0.5mm, Thermal Pad 2.7x2.7mm, IPC High Density)
footprint SLAB-QFN-28-2700x2700TP_M (QFN, 28-Leads, Body 5x5mm, Pitch 0.5mm, Thermal Pad 2.7x2.7mm, IPC Low Density)
part A pins: 3 NC "No connect", 5 NC "No connect", 10 RFOUT (out) "Radio frequency (RF) output of the selected RF VCO", 12 AUXOUT (out) "Auxiliary output", 13 ~{PWDN} (in) "Powerdown input pin", 15 XIN (in) "Reference frequency amplifier input", 19 IFLA "Pins for inductor connection to IF VCO", 20 IFLB "Pins for inductor connection to IF VCO", 23 IFOUT (out) "Intermediate frequency (IF) output of the IF VCO", 25 ~{SEN} (in) "Enable serial port input", 26 SCLK (in) "Serial clock input", 27 SDATA (in) "Serial data input"
part B pins: 1 GND (power) "Common ground", 2 GND (power) "Common ground", 4 GND (power) "Common ground", 6 GND (power) "Common ground", 7 GND (power) "Common ground", 8 GND (power) "Common ground", 9 GND (power) "Common ground", 11 VDDR (power) "Supply voltage for the RF analog circuitry", 14 GND (power) "Common ground", 16 GND (power) "Common ground", 17 VDDD (power) "Supply voltage for digital circuitry", 18 GND (power) "Common ground", 21 GND (power) "Common ground", 22 GND (power) "Common ground", 24 VDDI (power) "Supply voltage for IF analog circuitry", 28 GND (power) "Common ground", 29 GND (power) "Common ground"

## Si4136-F-GT
designator U?
ISM RF Synthesizer with Integrated VCOs for Wireless Communications, -40 to 85 degC, 24-pin SOP, Tube; Manufacturer: Silicon Labs; PartNumber: Si4136-F-GT; Sub-Family: RF Synthesizers; DatasheetVersion: Rev. 1.41; PackageReference: TSSOP-24; PackageDescription: 24-Pin Thin Shrink Small-Outline Package, Body 7.8 x 4.4 mm, Pitch 0.65 mm; Supplier 1: Digi-Key; Supplier Part Number 1: 336-1291-5-ND; Supplier 2: Mouser; Supplier Part Number 2: 634-SI4136-F-GT; Packing: Tube; Mounting Technology: Surface Mount; Code_JEDEC: MO-153; Code_IPC: J-STD-020; ComponentLink1Description: Manufacturer URL; ComponentLink1URL: http://www.silabs.com/; ComponentLink2Description: Datasheet; ComponentLink2URL: http://www.silabs.com/Support%20Documents/TechnicalDocs/si4136.pdf; ComponentLink3Description: Package Specification; ComponentLink3URL: http://www.silabs.com/Support%20Documents/TechnicalDocs/Si2457-34-15-04D.pdf
footprint SLAB-TSSOP-24_N (SOP, 24-Leads, Body 7.9x4.5mm, Pitch 0.65mm, IPC Medium Density)
footprint SLAB-TSSOP-24_L (SOP, 24-Leads, Body 7.9x4.5mm, Pitch 0.65mm, IPC High Density)
footprint SLAB-TSSOP-24_M (SOP, 24-Leads, Body 7.9x4.5mm, Pitch 0.65mm, IPC Low Density)
part A pins: 1 SCLK (in) "Serial clock input", 2 SDATA (in) "Serial data input", 5 NC "No connect", 7 NC "No connect", 11 RFOUT (out) "Radio frequency (RF) output of the selected RF VCO", 13 AUXOUT (out) "Auxiliary output", 14 ~{PWDN} (in) "Powerdown input pin", 15 XIN (in) "Reference frequency amplifier input", 19 IFLA "Pins for inductor connection to IF VCO", 20 IFLB "Pins for inductor connection to IF VCO", 22 IFOUT (out) "Intermediate frequency (IF) output of the IF VCO", 24 ~{SEN} (in) "Enable serial port input"
part B pins: 3 GND (power) "Common ground", 4 GND (power) "Common ground", 6 GND (power) "Common ground", 8 GND (power) "Common ground", 9 GND (power) "Common ground", 10 GND (power) "Common ground", 12 VDDR (power) "Supply voltage for the RF analog circuitry", 16 GND (power) "Common ground", 17 VDDD (power) "Supply voltage for digital circuitry", 18 GND (power) "Common ground", 21 GND (power) "Common ground", 23 VDDI (power) "Supply voltage for IF analog circuitry"